# Altium footprint library APT60DQ60SG.PCBLIB: 1 footprints
Each footprint in its own frame and in the unit in brackets; x right, y up, seen from the top. Pads: shape width x height; smd on the part's side, far side on the other; paste and mask are expansions set on the pad; w line width, h text height; cw(c..) or ccw(c..) is an arc to the next point about the centre after c.
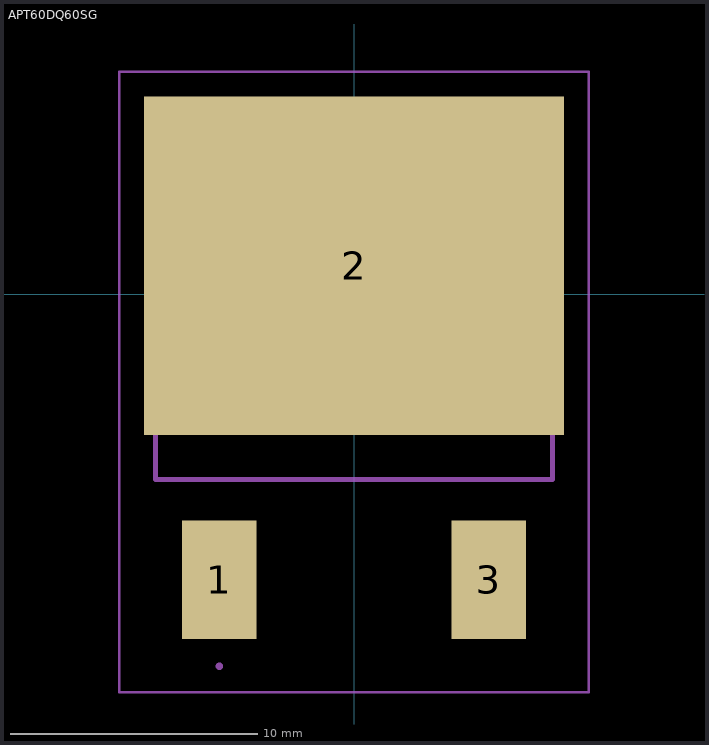
[diagram p0: the footprint, top view; thin cyan lines are the x and y axes]

## APT60DQ60SG [mm]
pads (3):
  rect 3x4.8 smd: 1(-5.45,-11.55) 3(5.45,-11.55)
  rect 17x13.7 smd: 2(0,1.15)
tDocu:
  lines w0.1: -9.5,-16.1 9.5,-16.1 9.5,9 -9.5,9 -9.5,-16.1
  lines w0.2: -8.025,-7.5 8.025,-7.5 8.025,7.5 -8.025,7.5 -8.025,-7.5
tPlace:
  lines w0.2: -5.45,-15.1 -5.45,-15.1 ; -5.45,-15.1 ccw(c-5.45,-15.05) -5.45,-15 ; -5.45,-15.1 cw(c-5.45,-15.05) -5.45,-15 ; -5.45,-15.1 -5.45,-15.1 ; -5.45,-15.1 ccw(c-5.45,-15.05) -5.45,-15 ; -5.45,-15 -5.45,-15